# Altium footprint library CON1X5_2.54_FM.PcbLib: 1 footprints
Each footprint in its own frame and in the unit in brackets; x right, y up, seen from the top. Pads: shape width x height; smd on the part's side, far side on the other; paste and mask are expansions set on the pad; w line width, h text height; cw(c..) or ccw(c..) is an arc to the next point about the centre after c.
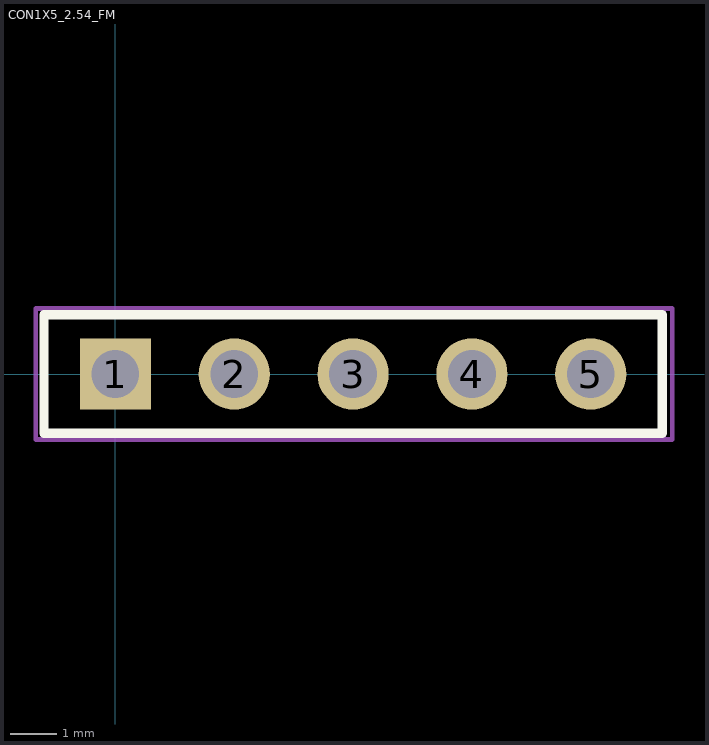
[diagram p0: the footprint, top view; thin cyan lines are the x and y axes]

## CON1X5_2.54_FM [mm] "Pitch 2.54mm Straight, PTH, 1x5Position"
height 2.54
pads (5):
  rect 1.52x1.52 hole 1.02: 1(0,0)
  round 1.52 hole 1.02: 2(2.54,0) 3(5.08,0) 4(7.62,0) 5(10.16,0)
Top Overlay:
  lines w0.2: -1.524,-1.27 -1.524,1.27 11.684,1.27 11.684,-1.27 -1.524,-1.27
Mechanical 13:
  lines w0.1: -1.52,-1.27 -1.52,1.27 11.684,1.27 11.684,-1.27 -1.52,-1.27
Mechanical 15:
  lines w0.1: -1.7,-1.4 -1.7,1.4 11.9,1.4 11.9,-1.4 -1.7,-1.4
3D body: height 8.5, standoff -3.1, extent -1.52,-1.25 11.68,1.25